# Altium schematic symbol library ebf FPGA ADC DAC 20191230_原理图库_AD格式.SCHLIB: 41 symbols
Pins are listed as number, name and electrical type; pins without a type are passive.

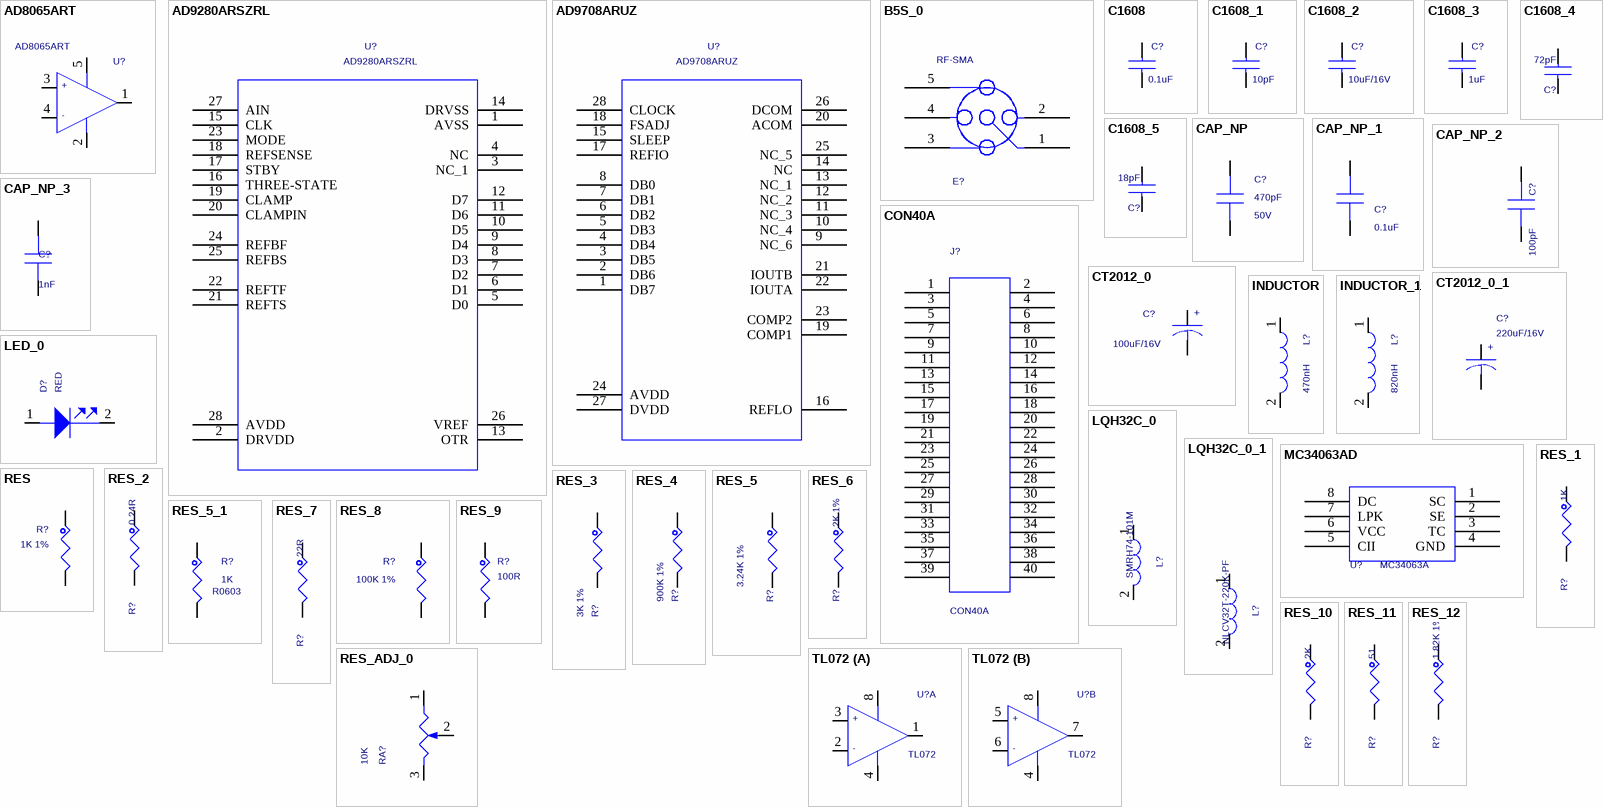
[diagram p0: symbols AD8065ART to TL072]

## AD8065ART
designator U?
PCB DECAL: SOT23-5; Source_Path: F:\SCH-PCB\FPGA\FPGA-ADCDAC\SCH\FPGA-ADCDAC.OLB; Value: AD8065ART
footprint SOT23-5
pins: 1 OUT, 2 -V, 3 +IN, 4 -IN, 5 +V
text: +; -

## AD9280ARSZRL
designator U?
PCB DECAL: SSOP28_0R65_10R2X7R8; Source_Path: F:\SCH-PCB\FPGA\FPGA-ADCDAC\SCH\FPGA-ADCDAC.OLB; OriginalSymbolOrigin: (30000,20000); DeviceNumbering: Alpha; DeviceDesignator: A; DevicesInPackage: 1; IsHeterogeneous: False; <_Value_>: AD9280ARSZRL; Value: AD9280ARSZRL; Manufacturer_Part_Number: AD9280ARSZRL; Vendor: Vendor; DevicesInView: 1; PackageName: AD9280ARSZRL
footprint SSOP28_0R65_10R2X7R8
pins: 1 AVSS, 2 DRVDD (power), 3 NC_1, 4 NC, 5 D0, 6 D1, 7 D2, 8 D3, 9 D4, 10 D5, 11 D6, 12 D7, 13 OTR, 14 DRVSS, 15 CLK, 16 THREE-STATE, 17 STBY, 18 REFSENSE, 19 CLAMP, 20 CLAMPIN, 21 REFTS, 22 REFTF, 23 MODE, 24 REFBF, 25 REFBS, 26 VREF, 27 AIN, 28 AVDD (power)

## AD9708ARUZ
designator U?
PCB DECAL: TSSOP28_0R65_9R7X4R4; Source_Path: F:\SCH-PCB\FPGA\FPGA-ADCDAC\SCH\FPGA-ADCDAC.OLB; OriginalSymbolOrigin: (30000,20000); DeviceNumbering: Alpha; DeviceDesignator: A; DevicesInPackage: 1; IsHeterogeneous: False; <_Value_>: AD9708ARUZ; Value: AD9708ARUZ; Manufacturer_Part_Number: AD9708ARUZ; Vendor: Vendor; DevicesInView: 1; PackageName: AD9708ARUZ
footprint TSSOP28_0R65_9R7X4R4
pins: 1 DB7, 2 DB6, 3 DB5, 4 DB4, 5 DB3, 6 DB2, 7 DB1, 8 DB0, 9 NC_6, 10 NC_4, 11 NC_3, 12 NC_2, 13 NC_1, 14 NC, 15 SLEEP, 16 REFLO, 17 REFIO, 18 FSADJ, 19 COMP1, 20 ACOM, 21 IOUTB, 22 IOUTA, 23 COMP2, 24 AVDD (power), 25 NC_5, 26 DCOM, 27 DVDD (power), 28 CLOCK

## B5S_0
designator E?  value RF-SMA  (hidden comment: B5S_0)
PCB DECAL: SMA_THVT_312X312; Source_Path: F:\SCH-PCB\FPGA\FPGA-ADCDAC\SCH\FPGA-ADCDAC.DSN
footprint SMA_THVT_312X312
pins: 1 A, 2 B, 3 C, 4 D, 5 E

## C1608
designator C?  value 0.1uF  (hidden comment: C1608)
PCB DECAL: C0603; Source_Path: D:\SOPGODS_VIEW_AP\MOBILE_AP_APPLICATION\LIBRARY\ORCAD\DEVICE.OLB
footprint C0603
pins: 1, 2

## C1608_1
designator C?, comment value 10pF  (hidden comment: C1608)
PCB DECAL: C0603; Source_Path: D:\SOPGODS_VIEW_AP\MOBILE_AP_APPLICATION\LIBRARY\ORCAD\DEVICE.OLB
footprint C0603
pins: 1, 2

## C1608_2
designator C?, comment value 10uF/16V  (hidden comment: C1608)
PCB DECAL: C0603; Source_Path: D:\SOPGODS_VIEW_AP\MOBILE_AP_APPLICATION\LIBRARY\ORCAD\DEVICE.OLB
footprint C0603
pins: 1, 2

## C1608_3
designator C?, comment value 1uF  (hidden comment: C1608)
PCB DECAL: C0603; Source_Path: D:\SOPGODS_VIEW_AP\MOBILE_AP_APPLICATION\LIBRARY\ORCAD\DEVICE.OLB
footprint C0603
pins: 1, 2

## C1608_4
designator C?, comment value 72pF  (hidden comment: C1608)
PCB DECAL: C0603; Source_Path: D:\SOPGODS_VIEW_AP\MOBILE_AP_APPLICATION\LIBRARY\ORCAD\DEVICE.OLB
footprint C0603
pins: 1, 2

## C1608_5
designator C?, comment value 18pF  (hidden comment: C1608)
PCB DECAL: C0603; Source_Path: D:\SOPGODS_VIEW_AP\MOBILE_AP_APPLICATION\LIBRARY\ORCAD\DEVICE.OLB
footprint C0603
pins: 1, 2

## CAP_NP
designator C?  value 470pF  Voltage: 50V  (hidden comment: CAP_NP)
0805, X7R, 50V, 10%(K); Part_Number: CA100009-01; Mfr_Part_Number: 0805B471K500NT; Mfr: Fenghua; Partname: 贴片电容  0805; PCB DECAL: C0603; Gtech_Number: 5030805470PK50V01; Remarks: Checked; Spec: 470pF/50V 10%(K) X7R,0805B471K500NT(风华); Source_Path: D:\CADENCELIB\CAPTURELIB\LC_PASSIVE.OLB; Tolerance: ±10%; Availability: 1; Datasheet: D:\CadenceLib\Partbase\Datasheet\Capacitor\Fenghua\LC503_Fenghua-X7R.pdf
footprint C0603
pins: 1, 2

## CAP_NP_1
designator C?, comment value 0.1uF  (hidden comment: CAP_NP)
CAP CER 0.1UF 10V 10% X5R 0402; PCB DECAL: C0603; FPLIST: CC0402_25,CC0402_HD,0402_CC; CAD_APPROVED: Yes; MFG_PN01: C0402C104K8PAC; MFG_NAME01: KEMET; AGILE_PN: 150-75634; Source_Path: Q:\ORCADCIS\SYMBOLS\FCL_CAPACITOR.OLB; CLASS: DISCRETE; VOLTAGE: 10V; HEIGHT: 0.64MM; ROHS: Yes; Tolerance: 10%
footprint C0603
pins: 1, 2

## CAP_NP_2
designator C?, comment value 100pF  (hidden comment: CAP_NP)
CAP CER 0.1UF 10V 10% X5R 0402; PCB DECAL: C0603; FPLIST: CC0402_25,CC0402_HD,0402_CC; CAD_APPROVED: Yes; MFG_PN01: C0402C104K8PAC; MFG_NAME01: KEMET; AGILE_PN: 150-75634; Source_Path: Q:\ORCADCIS\SYMBOLS\FCL_CAPACITOR.OLB; CLASS: DISCRETE; VOLTAGE: 10V; HEIGHT: 0.64MM; ROHS: Yes; Tolerance: 10%
footprint C0603
pins: 1, 2

## CAP_NP_3
designator C?, comment value 1nF  (hidden comment: CAP_NP)
CAP CER 0.1UF 10V 10% X5R 0402; PCB DECAL: C0603; FPLIST: CC0402_25,CC0402_HD,0402_CC; CAD_APPROVED: Yes; MFG_PN01: C0402C104K8PAC; MFG_NAME01: KEMET; AGILE_PN: 150-75634; Source_Path: Q:\ORCADCIS\SYMBOLS\FCL_CAPACITOR.OLB; CLASS: DISCRETE; VOLTAGE: 10V; HEIGHT: 0.64MM; ROHS: Yes; Tolerance: 10%
footprint C0603
pins: 1, 2

## CON40A
designator J?
PCB DECAL: DIP-2X20_2P54; Source_Path: C:\MYPROGRAM\CADENCE\SPB_16.6\TOOLS\CAPTURE\LIBRARY\CONNECTOR.OLB; Value: CON40A
footprint DIP-2X20_2P54
pins: 1, 2, 3, 4, 5, 6, 7, 8, 9, 10, 11, 12, 13, 14, 15, 16, 17, 18, 19, 20, 21, 22, 23, 24, 25, 26, 27, 28, 29, 30, 31, 32, 33, 34, 35, 36, 37, 38, 39, 40

## CT2012_0
designator C?  value 100uF/16V  (hidden comment: CT2012_0)
PCB DECAL: EC6P3; Source_Path: D:\01_LSI_PROJECT\C100\00.SMDK俺惯\SCHEMATICS\C100\C100_CPU.OLB
footprint EC6P3
pins: 1, 2
text: +

## CT2012_0_1
designator C?, comment value 220uF/16V  (hidden comment: CT2012_0)
PCB DECAL: EC6P3; Source_Path: D:\01_LSI_PROJECT\C100\00.SMDK俺惯\SCHEMATICS\C100\C100_CPU.OLB
footprint EC6P3
pins: 1, 2
text: +

## INDUCTOR
designator L?  value 470nH  (hidden comment: INDUCTOR)
PCB DECAL: L0603; Source_Path: Q:\ORCADCIS\SYMBOLS\FCL_INDUCTOR.OLB; CLASS: DISCRETE
footprint L0603
pins: 1, 2

## INDUCTOR_1
designator L?, comment value 820nH  (hidden comment: INDUCTOR)
PCB DECAL: L0603; Source_Path: Q:\ORCADCIS\SYMBOLS\FCL_INDUCTOR.OLB; CLASS: DISCRETE
footprint L0603
pins: 1, 2

## LED_0
designator D?  value RED  (hidden comment: LED_0)
LED GRN SGL 25MA 0603; AGILE_PN: 370-76549; MFG_NAME01: KINGBRIGHT; MFG_PN01: KPT-1608SGC; CAD_APPROVED: Yes; PCB DECAL: LED0603; Source_Path: H:\NXP_RT1050\SCH\IMXRT1052_CORE\CORE\IMXRT1052_1207.DSN; CLASS: IC; ROHS: Yes; HEIGHT: 0.85MM
footprint LED0603
pins: 1 ANODE, 2 CATHODE

## LQH32C_0
designator L?  value SMRH74-101M  (hidden comment: LQH32C_0)
PCB DECAL: L7373; Source_Path: D:\USER\ALLEGRO\2009\APR\SMDK_S5PC110_BASE\CAPTURE\S5PC110_SMDK_BASE_BD_SCHEMATIC_REV0.0.DSN
footprint L7373
pins: 1, 2

## LQH32C_0_1
designator L?, comment value NLCV32T-220K-PF  (hidden comment: LQH32C_0)
PCB DECAL: L1210; Source_Path: D:\USER\ALLEGRO\2009\APR\SMDK_S5PC110_BASE\CAPTURE\S5PC110_SMDK_BASE_BD_SCHEMATIC_REV0.0.DSN
footprint L1210
pins: 1, 2

## MC34063AD
designator U?  value MC34063A  (hidden comment: MC34063AD)
1.5-A PEAK BOOST/BUCK/INVERTING SWITCHING REGULATORS, -40 to 85℃; Part_Number: IC100191-01; Mfr_Part_Number: MC33063ADR; Mfr: TI; Partname: 贴片IC; Gtech_Number: 60101MC33063AD001; Remarks: Checked; Spec: MC33063ADR SOIC8(TI); PCB DECAL: SOP8; Source_Path: D:\CADENCELIB\CAPTURELIB\LC_IC_POWER.OLB; Availability: 0
footprint SOP8
pins: 1 SC, 2 SE, 3 TC, 4 GND (power), 5 CII, 6 VCC (power), 7 LPK, 8 DC

## RES
designator R?  value 1K 1%  (hidden comment: RES)
RES MF 1.0M 1/10W 5% 0402; PCB DECAL: R0603; FPLIST: RC0402_25,RC0402_HD,0402_CC; CAD_APPROVED: Yes; MFG_PN01: ERJ-2GEJ105X; MFG_NAME01: PANASONIC; AGILE_PN: 470-79978; Source_Path: Q:\ORCADCIS\SYMBOLS\FCL_RESISTOR.OLB; CLASS: DISCRETE; ROHS: Yes; Tolerance: 5%; HEIGHT: 0.4MM
footprint R0603
pins: 1, 2

## RES_1
designator R?, comment value 1K  (hidden comment: RES)
RES MF 1.0M 1/10W 5% 0402; AGILE_PN: 470-79978; MFG_NAME01: PANASONIC; MFG_PN01: ERJ-2GEJ105X; CAD_APPROVED: Yes; FPLIST: RC0402_25,RC0402_HD,0402_CC; PCB DECAL: R0603; Source_Path: Q:\ORCADCIS\SYMBOLS\FCL_RESISTOR.OLB; CLASS: DISCRETE; HEIGHT: 0.4MM; Tolerance: 5%; ROHS: Yes
footprint R0603
pins: 1, 2

## RES_2
designator R?, comment value 0.24R  (hidden comment: RES)
RES MF 1.0M 1/10W 5% 0402; AGILE_PN: 470-79978; MFG_NAME01: PANASONIC; MFG_PN01: ERJ-2GEJ105X; CAD_APPROVED: Yes; FPLIST: RC0402_25,RC0402_HD,0402_CC; PCB DECAL: R0603; Source_Path: Q:\ORCADCIS\SYMBOLS\FCL_RESISTOR.OLB; CLASS: DISCRETE; HEIGHT: 0.4MM; Tolerance: 5%; ROHS: Yes
footprint R0603
pins: 1, 2

## RES_3
designator R?, comment value 3K 1%  (hidden comment: RES)
RES MF 1.0M 1/10W 5% 0402; PCB DECAL: R0603; FPLIST: RC0402_25,RC0402_HD,0402_CC; CAD_APPROVED: Yes; MFG_PN01: ERJ-2GEJ105X; MFG_NAME01: PANASONIC; AGILE_PN: 470-79978; Source_Path: Q:\ORCADCIS\SYMBOLS\FCL_RESISTOR.OLB; CLASS: DISCRETE; ROHS: Yes; Tolerance: 5%; HEIGHT: 0.4MM
footprint R0603
pins: 1, 2

## RES_4
designator R?, comment value 900K 1%  (hidden comment: RES)
RES MF 1.0M 1/10W 5% 0402; PCB DECAL: R0603; AGILE_PN: 470-79978; MFG_NAME01: PANASONIC; MFG_PN01: ERJ-2GEJ105X; CAD_APPROVED: Yes; FPLIST: RC0402_25,RC0402_HD,0402_CC; Source_Path: Q:\ORCADCIS\SYMBOLS\FCL_RESISTOR.OLB; CLASS: DISCRETE; HEIGHT: 0.4MM; Tolerance: 5%; ROHS: Yes
footprint R0603
pins: 1, 2

## RES_5
designator R?, comment value 3.24K 1%  (hidden comment: RES)
RES MF 1.0M 1/10W 5% 0402; FPLIST: RC0402_25,RC0402_HD,0402_CC; CAD_APPROVED: Yes; MFG_PN01: ERJ-2GEJ105X; MFG_NAME01: PANASONIC; AGILE_PN: 470-79978; PCB DECAL: R0603; Source_Path: Q:\ORCADCIS\SYMBOLS\FCL_RESISTOR.OLB; CLASS: DISCRETE; ROHS: Yes; Tolerance: 5%; HEIGHT: 0.4MM
footprint R0603
pins: 1, 2

## RES_5_1
designator R?, comment value 1K  PCB DECAL: R0603  (hidden comment: RES_5)
RES MF ZERO OHM 1/16W 5% 0402; AGILE_PN: 470-75394; MFG_NAME01: ROHM; MFG_PN01: MCR01MZPJ000; CAD_APPROVED: Yes; FPLIST: RC0402_25,RC0402_HD,RC0402_X2,0402_CC; Source_Path: F:\NXP\RT1020\SCH\IMXRT1021_0928_1.DSN; CLASS: DISCRETE; HEIGHT: 0.45 MM; Tolerance: 5%; ROHS: Yes
footprint R0603
pins: 1, 2

## RES_6
designator R?, comment value 2K 1%  (hidden comment: RES)
RES MF 1.0M 1/10W 5% 0402; PCB DECAL: R0603; FPLIST: RC0402_25,RC0402_HD,0402_CC; CAD_APPROVED: Yes; MFG_PN01: ERJ-2GEJ105X; MFG_NAME01: PANASONIC; AGILE_PN: 470-79978; Source_Path: Q:\ORCADCIS\SYMBOLS\FCL_RESISTOR.OLB; CLASS: DISCRETE; ROHS: Yes; Tolerance: 5%; HEIGHT: 0.4MM
footprint R0603
pins: 1, 2

## RES_7
designator R?, comment value 22R  (hidden comment: RES)
RES MF 1.0M 1/10W 5% 0402; AGILE_PN: 470-79978; MFG_NAME01: PANASONIC; MFG_PN01: ERJ-2GEJ105X; CAD_APPROVED: Yes; FPLIST: RC0402_25,RC0402_HD,0402_CC; PCB DECAL: R0603; Source_Path: Q:\ORCADCIS\SYMBOLS\FCL_RESISTOR.OLB; CLASS: DISCRETE; HEIGHT: 0.4MM; Tolerance: 5%; ROHS: Yes
footprint R0603
pins: 1, 2

## RES_8
designator R?, comment value 100K 1%  (hidden comment: RES)
RES MF 1.0M 1/10W 5% 0402; PCB DECAL: R0603; AGILE_PN: 470-79978; MFG_NAME01: PANASONIC; MFG_PN01: ERJ-2GEJ105X; CAD_APPROVED: Yes; FPLIST: RC0402_25,RC0402_HD,0402_CC; Source_Path: Q:\ORCADCIS\SYMBOLS\FCL_RESISTOR.OLB; CLASS: DISCRETE; HEIGHT: 0.4MM; Tolerance: 5%; ROHS: Yes
footprint R0603
pins: 1, 2

## RES_9
designator R?, comment value 100R  (hidden comment: RES)
RES MF 1.0M 1/10W 5% 0402; FPLIST: RC0402_25,RC0402_HD,0402_CC; CAD_APPROVED: Yes; MFG_PN01: ERJ-2GEJ105X; MFG_NAME01: PANASONIC; AGILE_PN: 470-79978; PCB DECAL: R0603; Source_Path: Q:\ORCADCIS\SYMBOLS\FCL_RESISTOR.OLB; CLASS: DISCRETE; ROHS: Yes; Tolerance: 5%; HEIGHT: 0.4MM
footprint R0603
pins: 1, 2

## RES_10
designator R?, comment value 2K  (hidden comment: RES)
RES MF 1.0M 1/10W 5% 0402; FPLIST: RC0402_25,RC0402_HD,0402_CC; CAD_APPROVED: Yes; MFG_PN01: ERJ-2GEJ105X; MFG_NAME01: PANASONIC; AGILE_PN: 470-79978; PCB DECAL: R0603; Source_Path: Q:\ORCADCIS\SYMBOLS\FCL_RESISTOR.OLB; CLASS: DISCRETE; ROHS: Yes; Tolerance: 5%; HEIGHT: 0.4MM
footprint R0603
pins: 1, 2

## RES_11
designator R?, comment value 51  (hidden comment: RES)
RES MF 1.0M 1/10W 5% 0402; PCB DECAL: R2512; AGILE_PN: 470-79978; MFG_NAME01: PANASONIC; MFG_PN01: ERJ-2GEJ105X; CAD_APPROVED: Yes; FPLIST: RC0402_25,RC0402_HD,0402_CC; Source_Path: Q:\ORCADCIS\SYMBOLS\FCL_RESISTOR.OLB; CLASS: DISCRETE; HEIGHT: 0.4MM; Tolerance: 5%; ROHS: Yes
footprint R2512
pins: 1, 2

## RES_12
designator R?, comment value 1.82K 1%  (hidden comment: RES)
RES MF 1.0M 1/10W 5% 0402; PCB DECAL: R0603; AGILE_PN: 470-79978; MFG_NAME01: PANASONIC; MFG_PN01: ERJ-2GEJ105X; CAD_APPROVED: Yes; FPLIST: RC0402_25,RC0402_HD,0402_CC; Source_Path: Q:\ORCADCIS\SYMBOLS\FCL_RESISTOR.OLB; CLASS: DISCRETE; HEIGHT: 0.4MM; Tolerance: 5%; ROHS: Yes
footprint R0603
pins: 1, 2

## RES_ADJ_0
designator RA?  value 10K  (hidden comment: RES_ADJ_0)
Single Turn Top Adjust, 3362P; Part_Number: RE700010-01; Mfr_Part_Number: 3362P-1-203LF; Mfr: Bourns; Partname: DIP可调电阻 3362; PCB DECAL: 3386P-1; Power: 1/2W; Gtech_Number: 50700011202KR0201; Remarks: Checked; Spec: 20K,3362P-1-203LF(Bourns); Source_Path: D:\NXP_RT1050\PCB\IMXRT1052-180207\SCH\RT1050_MB_PRO\IMXRT1052_MB_PRO_0502.DSN
footprint 3386P-1
pins: 1, 2, 3

## TL072
designator U?
PCB DECAL: SOP8; Source_Path: F:\SCH-PCB\FPGA\FPGA-ADCDAC\SCH\FPGA-ADCDAC.OLB; Value: TL072
footprint SOP8
part A pins: 1 OUT, 2 -IN, 3 +IN, 4 GND (power), 8 VCC+ (power)
part B pins: 4 GND (power), 5 +IN, 6 -IN, 7 OUT, 8 VCC+ (power)
part A text: +; -
part B text: +; -

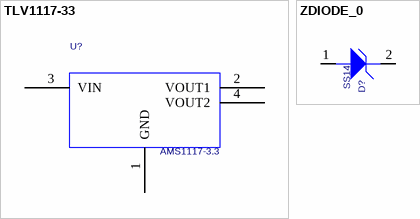
[diagram p1: symbols TLV1117-33 to ZDIODE_0]

## TLV1117-33
designator U?  value AMS1117-3.3  (hidden comment: TLV1117-33)
IC REG LDO 3.3V 1A SOT223; PN: AP2114H-3.3TRG1; DIGI_KEY: 296-21108-1-ND; Vendor: Diodes Incorporated; Source_Path: C:\AUTOMATION GATEWAY FCL5150\AG_FCL5150_RC00.OLB; Author: Emil S.; PCB DECAL: SOT223
footprint SOT223
pins: 1 GND, 2 VOUT1, 3 VIN, 4 VOUT2

## ZDIODE_0
designator D?  value SS14  (hidden comment: ZDIODE_0)
DIODE ZNR -- 0.2W 5.1V AEC-Q101 SOD523; CAD_APPROVED: Yes; MFG_PN01: MM5Z5V1ST1G; MFG_NAME01: ON SEMICONDUCTOR; AGILE_PN: 480-77217; PCB DECAL: SMA; Source_Path: H:\NXP_RT1050\SCH\IMXRT1052_MB.DSN; CLASS: IC; HEIGHT: 0.7MM; ROHS: Yes
footprint SMA
pins: 1 ANODE, 2 CATHODE